# EAGLE library part ADG5423 (library ck)
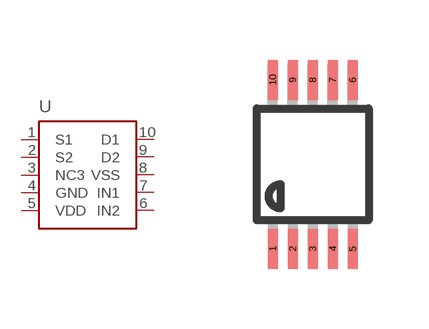
[diagram p26: symbol with the pads of 10-MSOP; footprint 10-MSOP]

Designator prefix U

## ADG5423  [10-MSOP]
1  S1
2  S2
3  NC3
4  GND
5  VDD
6  IN2
7  IN1
8  VSS
9  D2
10  D1

## Footprint 10-MSOP (pad centres in mm)
smd 0.25 x 1: 1 -1,-2.097; 2 -0.5,-2.097; 3 0,-2.097; 4 0.5,-2.097; 5 1,-2.097; 6 1,2.129; 7 0.5,2.129; 8 0,2.129; 9 -0.5,2.129; 10 -1,2.129